# EAGLE library part BRICK_TO_POWER_DIST_WHOLE (library MotherBoardParts2)
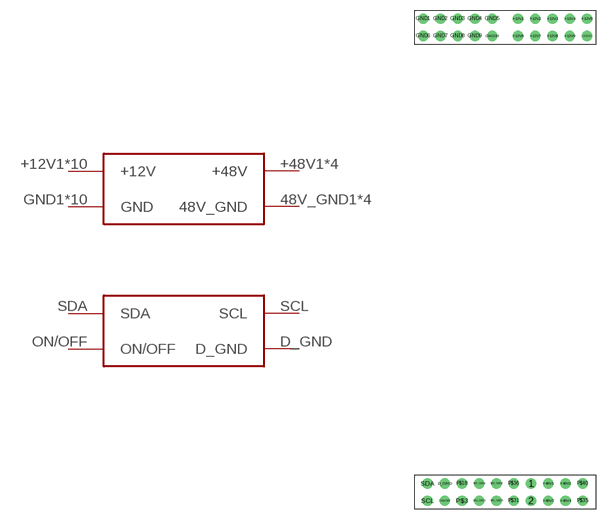
[diagram p2: symbol with the pads of BRICK_TO_POWER_DIST_WHOLE; footprint BRICK_TO_POWER_DIST_WHOLE]

Designator prefix -

## BRICK_TO_POWER_DIST_WHOLE  [BRICK_TO_POWER_DIST_WHOLE]
48V_GND1  48V_GND
48V_GND2  48V_GND
48V_GND3  48V_GND
48V_GND4  48V_GND
+12V1  +12V
+12V2  +12V
+12V3  +12V
+12V4  +12V
+12V5  +12V
+12V6  +12V
+12V7  +12V
+12V8  +12V
+12V9  +12V
+12V10  +12V
+48V1  +48V
+48V2  +48V
+48V3  +48V
+48V4  +48V
D_GND  D_GND
GND1  GND
GND2  GND
GND3  GND
GND4  GND
GND5  GND
GND6  GND
GND7  GND
GND8  GND
GND9  GND
GND10  GND
ON/OFF  ON/OFF
SCL  SCL
SDA  SDA

## Footprint BRICK_TO_POWER_DIST_WHOLE (pad centres in mm)
drill 1: 1 12.065,-49.53; 2 12.065,-52.07; 48V_GND1 4.445,-49.53; 48V_GND2 6.985,-49.53; 48V_GND3 4.445,-52.07; 48V_GND4 6.985,-52.07; +12V1 10.16,19.05; +12V2 12.7,19.05; +12V3 15.24,19.05; +12V4 17.78,19.05; +12V5 20.32,19.05; +12V6 10.16,16.51; +12V7 12.7,16.51; +12V8 15.24,16.51; +12V9 17.78,16.51; +12V10 20.32,16.51; +48V1 14.605,-49.53; +48V2 17.145,-49.53; +48V3 14.605,-52.07; +48V4 17.145,-52.07; D_GND -0.635,-49.53; GND1 -3.81,19.05; GND2 -1.27,19.05; GND3 1.27,19.05; GND4 3.81,19.05; GND5 6.35,19.05; GND6 -3.81,16.51; GND7 -1.27,16.51; GND8 1.27,16.51; GND9 3.81,16.51; GND10 6.35,16.51; ON/OFF -0.635,-52.07; P$3 1.905,-52.07; P$18 1.905,-49.53; P$31 9.525,-52.07; P$35 19.685,-52.07; P$36 9.525,-49.53; P$40 19.685,-49.53; SCL -3.175,-52.07; SDA -3.175,-49.53